# Altium footprint library PcbLib1.PcbLib: 218 footprints (part 2 of 14)
Each footprint in its own frame and in the unit in brackets; x right, y up, seen from the top. Pads: shape width x height; smd on the part's side, far side on the other; paste and mask are expansions set on the pad; w line width, h text height; cw(c..) or ccw(c..) is an arc to the next point about the centre after c.
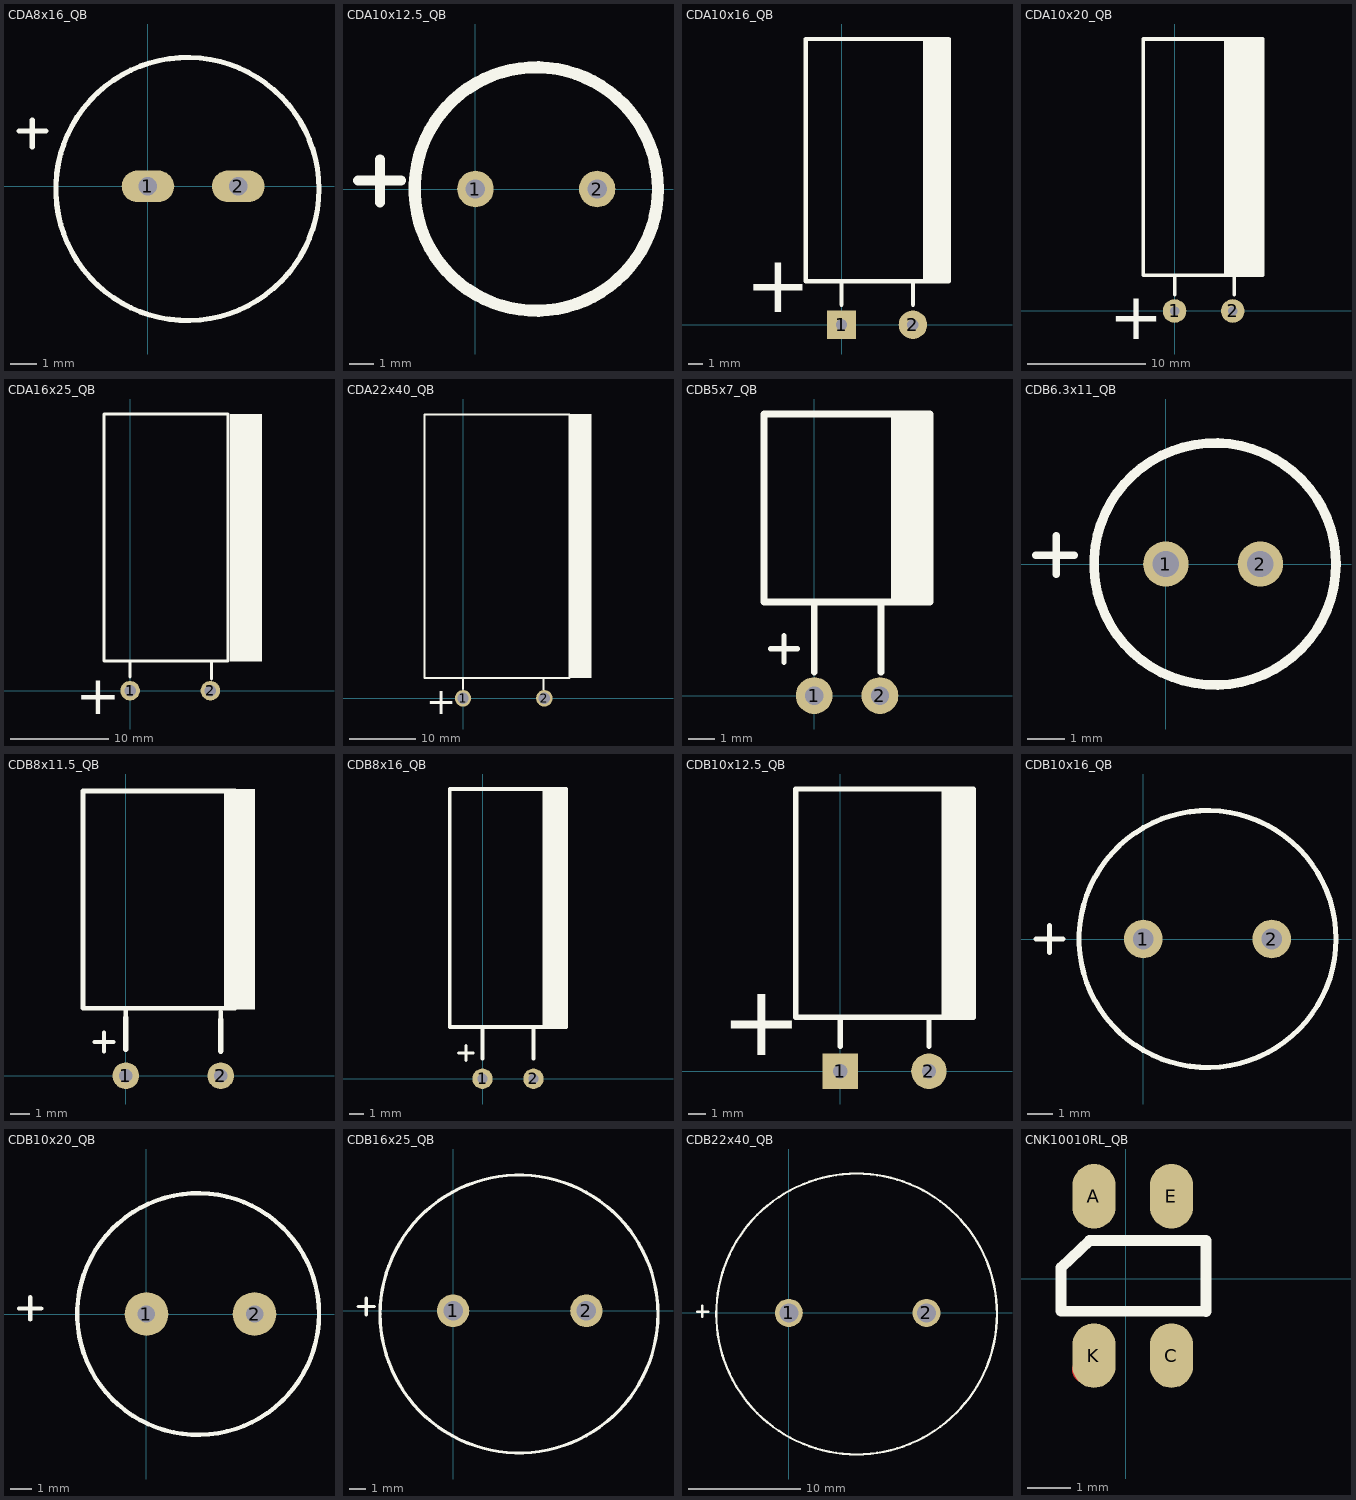
[diagram p1: the footprints below, top view; thin cyan lines are the x and y axes]

## CDA8x16_QB [mm]
height 11
pads (2):
  oval 2x1.2 hole 0.7: 1(0,0) 2(3.429,0)
Top Overlay:
  circle w0.2: c1.5,-0.1 r5
  lines w0.2: -4.9,2.1 -3.884,2.1 ; -4.4,1.5 -4.4,2.516
3D body: height 16, standoff 0, extent -2.384,-4.184 5.584,3.8

## CDA10x12.5_QB [mm]
height 12.25
pads (2):
  round 1.5 hole 0.8: 1(0,0) 2(5,0)
Top Overlay:
  circle w0.5: c2.5,0 r5
  lines w0.4: -4.825,0.35 -3.05,0.35 ; -3.925,-0.55 -3.925,1.225
3D body: height 12.5, standoff 0, extent -2.46,-4.99 7.5,4.99
3D body: height 0.1, standoff -3, extent -0.299,-0.299 0.299,0.3
3D body: height 0.1, standoff -3, extent 4.701,-0.299 5.299,0.3

## CDA10x16_QB [mm]
height 10
pads (2):
  rect 2x2 hole 0.8: 1(0,0)
  round 2 hole 0.8: 2(5,0)
Top Overlay:
  rectangle: 5.7,3.048 7.402,20
  lines w0.3: 0,1.397 0,3.048 ; 5,1.397 5,3.048 ; 7.493,3.048 -2.5,3.048 -2.5,20 7.493,20 ; 7.5,3.048 7.5,20
  text "+" at -6.731,0.889 h4
3D body: height 9.96, standoff 0, extent -2.48,3 7.5,19
3D body: height 5.35, standoff 4.65, extent 4.651,-0.349 5.347,0.349
3D body: height 5, standoff -2, extent 4.651,-0.349 5.348,0.349
3D body: height 5.35, standoff 4.65, extent 4.651,-0.049 5.349,4.951
3D body: height 5.35, standoff 4.65, extent -0.349,-0.349 0.347,0.349
3D body: height 5, standoff -2, extent -0.397,-0.349 0.3,0.349
3D body: height 5.35, standoff 4.65, extent -0.349,-0.049 0.349,4.951

## CDA10x20_QB [mm]
height 10
pads (2):
  round 2 hole 0.8: 1(0,0) 2(4.953,0)
Top Overlay:
  rectangle: 4.191,3.048 7.493,23.114
  lines w0.3: 0,1.397 0,3.048 ; 5.08,1.397 5.08,3.048 ; -2.667,3.048 7.493,3.048 7.493,23.114 -2.667,23.114 -2.667,3.048
  text "+" at -5.55,-2.38 h4
3D body: height 5.35, standoff 4.65, extent 4.605,-0.381 5.301,0.316
3D body: height 5.35, standoff 4.65, extent -0.348,-0.316 0.348,0.381
3D body: height 5.35, standoff 4.65, extent 4.572,0.04 5.271,5.04
3D body: height 5.35, standoff 4.65, extent -0.318,0.04 0.381,5.04
3D body: height 9.96, standoff 0, extent -2.73,2.95 7.25,22.95
3D body: height 5, standoff -2, extent -0.349,-0.349 0.349,0.35
3D body: height 5, standoff -2, extent 4.604,-0.381 5.302,0.318

## CDA16x25_QB [mm]
height 10
pads (2):
  round 2 hole 1.2: 1(0,0) 2(8.2,0)
Top Overlay:
  rectangle: 10.2,3 13.5,28.3
  lines w0.3: 0,1.397 0,3.048 ; 8.3,1.2 8.3,2.851 ; -2.667,3.048 -2.667,28.3 10,28.3 10,3.048 -2.667,3.048
  text "+" at -5.55,-2.38 h4
3D body: height 7.5, standoff 6.5, extent -0.348,-0.316 0.647,0.68
3D body: height 7.5, standoff 6.5, extent 7.952,-0.3 8.947,0.696
3D body: height 7, standoff -2, extent 7.951,-0.301 8.947,0.697
3D body: height 7, standoff -2, extent -0.349,-0.349 0.647,0.65
3D body: height 15.94, standoff 0, extent -2.984,2.9 12.984,27.9
3D body: height 7.5, standoff 6.5, extent -0.318,0.04 0.68,5.04
3D body: height 7.5, standoff 6.5, extent 7.901,-0.1 8.899,4.9

## CDA22x40_QB [mm]
height 10
pads (2):
  round 2.5 hole 1.7: 1(0,0) 2(12.3,0)
Top Overlay:
  rectangle: 16.1,3.1 19.4,43
  lines w0.3: 0,1.397 0,3.048 ; 12.2,1.249 12.2,2.9 ; -5.8,3.048 16.1,3.048 16.1,42.9 -5.8,42.9 -5.8,3.048
  text "+" at -5.55,-2.38 h4
3D body: height 9.8, standoff 8.2, extent 11.508,-0.597 13.1,0.997
3D body: height 9.8, standoff 8.2, extent -0.792,-0.693 0.8,0.9
3D body: height 9.79, standoff 8.2, extent 11.5,0.3 13.097,9.3
3D body: height 9.79, standoff 8.2, extent -0.798,0 0.798,9
3D body: height 21.91, standoff 0, extent -5.878,3.1 16.078,43.1
3D body: height 9, standoff -2, extent -0.7,-0.798 0.894,0.798
3D body: height 9, standoff -2, extent 11.503,-0.7 13.097,0.897

## CDB5x7_QB [mm]
height 6.3
pads (2):
  round 1.4 hole 0.7: 1(0,0) 2(2.5,0)
Top Overlay:
  rectangle: 2.921,3.556 4.4,10.7
  lines w0.2: -1.651,1.778 -0.635,1.778 ; -1.143,1.27 -1.143,2.286
  lines w0.254: 0,0.889 0,3.556 ; 2.54,0.889 2.54,3.556 ; -1.905,3.556 4.4,3.556 4.4,10.7 -1.905,10.7 -1.905,3.556
3D body: height 2.85, standoff 2.15, extent 2.159,0.032 2.858,4.032
3D body: height 2.85, standoff 2.15, extent -0.381,0.032 0.318,4.032
3D body: height 4.98, standoff 0, extent -1.49,3.5 3.5,10.5
3D body: height 2.5, standoff -1, extent 2.159,-0.381 2.856,0.318
3D body: height 2.5, standoff -1, extent -0.381,-0.381 0.316,0.318
3D body: height 2.85, standoff 2.15, extent 2.159,-0.381 2.856,0.316
3D body: height 2.85, standoff 2.15, extent -0.381,-0.38 0.315,0.317

## CDB6.3x11_QB [mm]
height 11
pads (2):
  round 1.2 hole 0.7: 1(0,0) 2(2.5,0)
Top Overlay:
  circle w0.254: c1.3,0 r3.2
  lines w0.2: -3.433,0.228 -2.417,0.228 ; -2.9,-0.266 -2.9,0.75
3D body: height 11, standoff 0, extent -1.778,-3.175 4.398,3.013

## CDB8x11.5_QB [mm]
height 8
pads (2):
  round 1.4 hole 0.7: 1(0,0) 2(5,0)
Top Overlay:
  rectangle: 5.171,3.5 6.8,15.1
  lines w0.2: -1.651,1.778 -0.635,1.778 ; -1.143,1.27 -1.143,2.286
  lines w0.254: 0,1.5 0,3.556 ; 5,1.3 5,3.356 ; -2.25,3.556 -2.25,15 5.75,15 5.75,3.556 -2.25,3.556
  lines w0.3: 0,1.397 0,3.048 ; 5,1.3 5,2.951
3D body: height 7.97, standoff 0, extent -1.884,3.45 6.1,14.95
3D body: height 4.35, standoff 3.65, extent 4.704,-0.397 5.4,0.3
3D body: height 4, standoff -2, extent 4.7,-0.4 5.397,0.299
3D body: height 4.35, standoff 3.65, extent 4.701,0 5.4,5
3D body: height 4.35, standoff 3.65, extent -0.349,-0.349 0.347,0.349
3D body: height 4, standoff -2, extent -0.349,-0.349 0.348,0.349
3D body: height 4.35, standoff 3.65, extent -0.349,-0.049 0.349,4.951

## CDB8x16_QB [mm]
height 8
pads (2):
  round 1.4 hole 0.7: 1(0,0) 2(3.5,0)
Top Overlay:
  rectangle: 4.121,3.556 5.75,19.9
  lines w0.2: -1.651,1.778 -0.635,1.778 ; -1.143,1.27 -1.143,2.286
  lines w0.254: 0,1.5 0,3.556 ; 3.5,1.5 3.5,3.556 ; -2.25,3.556 -2.25,19.9 5.75,19.9 5.75,3.556 -2.25,3.556
  lines w0.3: 0,1.397 0,3.048 ; 3.5,1.397 3.5,3.048
3D body: height 7.97, standoff 0, extent -2.25,3.5 5.734,19.5
3D body: height 4.35, standoff 3.65, extent 3.151,-0.349 3.847,0.349
3D body: height 4, standoff -2, extent 3.151,-0.349 3.848,0.349
3D body: height 4.35, standoff 3.65, extent 3.151,-0.049 3.849,4.951
3D body: height 4.35, standoff 3.65, extent -0.349,-0.349 0.347,0.349
3D body: height 4, standoff -2, extent -0.349,-0.349 0.348,0.349
3D body: height 4.35, standoff 3.65, extent -0.349,-0.049 0.349,4.951

## CDB10x12.5_QB [mm]
height 10
pads (2):
  rect 2x2 hole 0.8: 1(0,0)
  round 2 hole 0.8: 2(5,0)
Top Overlay:
  rectangle: 5.7,3.048 7.402,15.8
  lines w0.3: 0,1.397 0,3.048 ; 5,1.397 5,3.048 ; 7.493,3.048 -2.5,3.048 -2.5,15.9 7.5,15.9 7.5,3.048
  text "+" at -6.731,0.889 h4
3D body: height 5.35, standoff 4.65, extent -0.349,-0.049 0.349,4.951
3D body: height 5, standoff -2, extent -0.349,-0.349 0.348,0.349
3D body: height 5.35, standoff 4.65, extent -0.349,-0.349 0.347,0.349
3D body: height 5.35, standoff 4.65, extent 4.651,-0.049 5.349,4.951
3D body: height 5, standoff -2, extent 4.651,-0.349 5.348,0.349
3D body: height 5.35, standoff 4.65, extent 4.651,-0.349 5.347,0.349
3D body: height 9.96, standoff 0, extent -2.48,3 7.5,15.5

## CDB10x16_QB [mm]
height 20
pads (2):
  round 1.5 hole 0.8: 1(0,0) 2(5,0)
Top Overlay:
  circle w0.2: c2.5,0 r5
  lines w0.2: -4.175,0 -3.125,0 ; -3.65,-0.525 -3.65,0.525
3D body: height 16, standoff 0, extent -2.46,-4.99 7.5,4.99

## CDB10x20_QB [mm]
height 20
pads (2):
  round 2 hole 0.8: 1(0,0) 2(4.953,0)
Top Overlay:
  circle w0.2: c2.366,0 r5.541
  lines w0.2: -5.842,0.254 -4.826,0.254 ; -5.334,-0.254 -5.334,0.762
3D body: height 20, standoff 0, extent -2.694,-5.08 7.266,4.9

## CDB16x25_QB [mm]
height 20
pads (2):
  round 2 hole 1.2: 1(0,0) 2(8.2,0)
Top Overlay:
  circle w0.2: c4.059,-0.2 r8.541
  lines w0.2: -5.842,0.254 -4.826,0.254 ; -5.334,-0.254 -5.334,0.762
3D body: height 25, standoff 0, extent -3.761,-8.58 12.176,7.388

## CDB22x40_QB [mm]
height 20
pads (2):
  round 2.5 hole 1.7: 1(0,0) 2(12.3,0)
Top Overlay:
  circle w0.2: c6.059,-0.1 r12.541
  lines w0.2: -8.2,0.1 -7.184,0.1 ; -7.734,-0.354 -7.734,0.662
3D body: height 40, standoff 0, extent -5.657,-11.257 16.257,10.7

## CNK10010RL_QB [mm]
pads (4):
  oval 1x1.5 smd: A(-0.737,1.92) C(1.063,-1.78) E(1.063,1.92) K(-0.737,-1.78)
Top Layer:
  lines w0.635: -0.933,-2.105 cw(c-0.933,-2.389) -0.732,-2.188 ; -0.737,-1.78 cw(c1.78,-1.78) -0.732,-1.622
Top Overlay:
  lines w0.254: -1.499,-0.747 -1.499,0.269 -0.837,0.893 1.862,0.893 1.862,-0.753 -1.499,-0.747
3D body: height 0.35, standoff 0, extent 0.225,-0.875 1.925,1.025
3D body: height 0.4, standoff 0, extent 0.125,-0.875 0.25,1.025
3D body: height 0.35, standoff 0, extent -1.55,-0.875 0.15,1.025
3D body: height 0.1, standoff 0, extent -1.55,-0.875 1.9,1.025